# Altium footprint library 440054-2.PcbLib: 1 footprints
Each footprint in its own frame and in the unit in brackets; x right, y up, seen from the top. Pads: shape width x height; smd on the part's side, far side on the other; paste and mask are expansions set on the pad; w line width, h text height; cw(c..) or ccw(c..) is an arc to the next point about the centre after c.
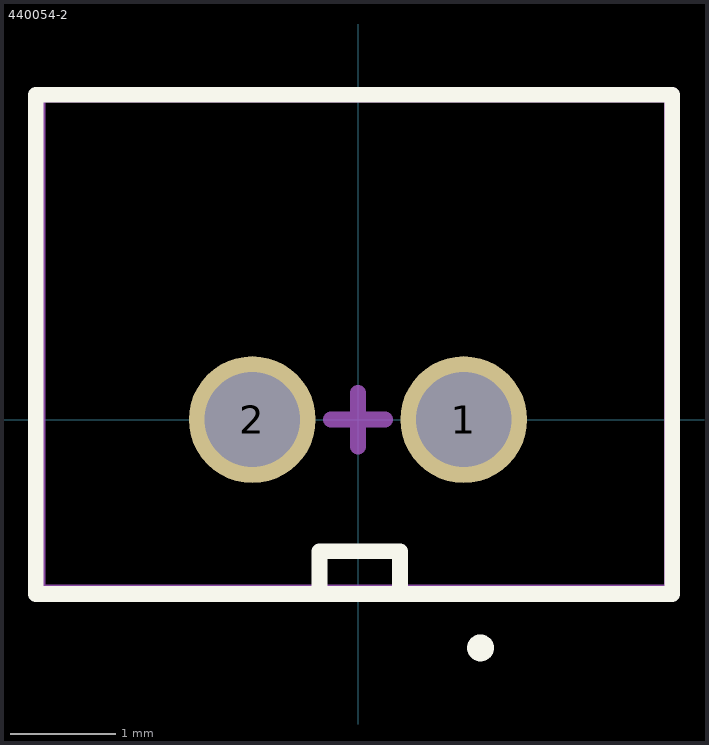
[diagram p0: the footprint, top view; thin cyan lines are the x and y axes]

## 440054-2 [mm]
pads (2):
  round 1.2 hole 0.9 mask+0.051: 1(1,0) 2(-1,0)
Top Overlay:
  circle w0.152: c1.159,-2.159 r0.051
  lines w0.15: -0.365,-1.575 -0.365,-1.245 0.397,-1.245 0.397,-1.6 ; -3.048,-1.651 -3.048,3.073 2.972,3.073 2.972,-1.651 -3.048,-1.651
Mechanical 13:
  lines w0.15: -3.032,3.065 -3.032,-1.635 2.968,-1.635 2.968,3.073 -3.032,3.073
Mechanical 15:
  lines w0.15: -0.254,0 0,0 ; 0,0 0,-0.254 0,0 ; 0,0 0.254,0 0,0 ; 0,0 0,0.254 0,0
3D body "440054-2.stp": height 6.06, standoff -3.39, extent -3,-1.623 3,3.077